# Altium schematic symbol library Cole_.SchLib: 330 symbols (part 4 of 10)
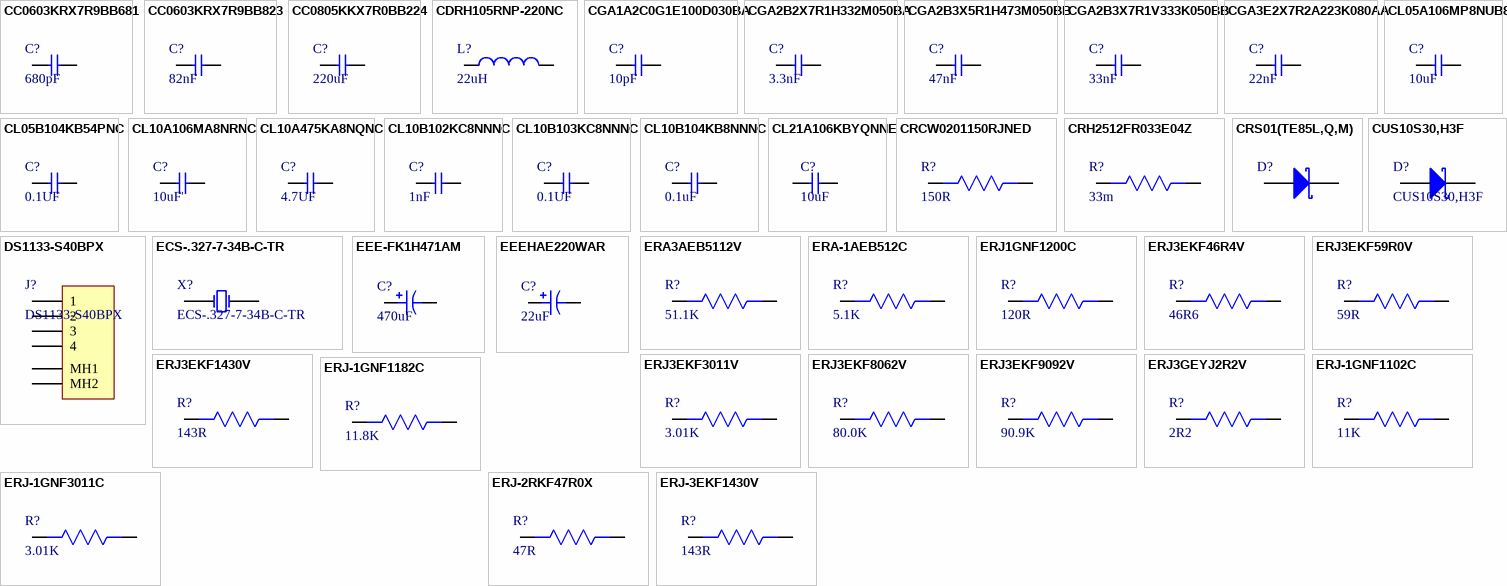
[diagram p11: symbols CC0603KRX7R9BB681 to ERJ-3EKF1430V]

## ERJ3EKF59R0V
designator R?, comment 59R
RES SMD 59 OHM 1% 1/10W 0603; Manufacturer: Panasonic; Manufacturer Part Number: ERJ-3EKF59R0V; Power Rating: 100mW; Voltage Rating: 75V; Temperature Coefficient: 100ppm/°C; Voltage Rating (DC): 50V; Supplier 1: Digi-Key; RoHS: Yes; Category: Chip SMD Resistors; Stock 1: 38721; Pricing 1: 1=0.10000, 10=0.03700, 100=0.01490, 1000=0.00670, 2500=0.00582 (USD); Mount: Surface Mount; Case/Package: 0603; Case Code (Metric): 1608; Case Code (Imperial): 0603; Contact Plating: Tin; Min Operating Temperature: -55°C; Max Operating Temperature: 155°C; Resistance: 59R; Tolerance: 1%; Packaging: Tape and Reel; Package Quantity: 1; Resistor Type: Thick Film; Number of Terminations: 2; Termination: SMD/SMT; Max Power Dissipation: 100mW; Features: Automotive AEC-Q200; Series: ERJ; Resistance Tolerance: 1%; Construction: Rectangular; Technology: THICK FILM; Length: 1.6mm; Width: 0.031inch; Height: 0.45mm; Depth: 0.8mm; REACH SVHC: Yes; Military Standard: Not; Lead Free: Contains Lead; RoHS Compliant: Yes; ComponentLink1URL: https://datasheet.ciiva.com/9188/aoa0000ce2-9188485.pdf?src-supplier=Avnet; ComponentLink1Description: https://datasheet.ciiva.com/9188/aoa0000ce2-9188485.pdf?src-supplier=Avnet; ComponentLink2URL: https://datasheet.ciiva.com/46420/1678782-46420341.pdf?src-supplier=Element14; ComponentLink2Description: https://datasheet.ciiva.com/46420/1678782-46420341.pdf?src-supplier=Element14; ComponentLink3URL: https://datasheet.ciiva.com/22729/1678782-22729158.pdf?src-supplier=Farnell; ComponentLink3Description: https://datasheet.ciiva.com/22729/1678782-22729158.pdf?src-supplier=Farnell; ComponentLink4URL: https://datasheet.ciiva.com/22673/1678782-22673800.pdf?src-supplier=Element14; ComponentLink4Description: https://datasheet.ciiva.com/22673/1678782-22673800.pdf?src-supplier=Element14; ComponentLink5URL: https://datasheet.ciiva.com/9188/aoa0000ce2-9188489.pdf?src-supplier=Avnet; ComponentLink5Description: https://datasheet.ciiva.com/9188/aoa0000ce2-9188489.pdf?src-supplier=Avnet; ComponentLink6URL: https://datasheet.ciiva.com/30242/aoa0000ce2-30242153.pdf?src-supplier=Onlinecomponents.com; ComponentLink6Description: https://datasheet.ciiva.com/30242/aoa0000ce2-30242153.pdf?src-supplier=Onlinecomponents.com; ComponentLink7URL: https://datasheet.ciiva.com/16777/70260748-16777979.pdf?src-supplier=Allied+Electronics; ComponentLink7Description: https://datasheet.ciiva.com/16777/70260748-16777979.pdf?src-supplier=Allied+Electronics; Supplier Part Number 1: P59.0HCT-ND
footprint Res0603
pins: 1, 2

## ERJ3EKF1430V
designator R?, comment 143R
RES SMD 143R 1/10W 0603; Manufacturer: Panasonic; Manufacturer Part Number: ERJ-3EKF1430V; Power Rating: 100mW; Tolerance: 1%; Voltage Rating: 75V; Temperature Coefficient: 100ppm/°C; Voltage Rating (DC): 50V; Supplier 1: Digi-Key; RoHS: Yes; Category: Chip SMD Resistors; Stock 1: 91616; Pricing 1: 1=0.10000, 10=0.07300, 100=0.02990, 1000=0.01341, 2500=0.01164 (USD); Mount: Surface Mount; Case/Package: 0603; Case Code (Metric): 1608; Case Code (Imperial): 0603; Contact Plating: Tin; Min Operating Temperature: -55°C; Max Operating Temperature: 155°C; Resistance: 143R; Packaging: Tape and Reel; Package Quantity: 1; Resistor Type: Thick Film; Number of Terminations: 2; Max Power Dissipation: 100mW; Features: Automotive AEC-Q200; Series: ERJ; Construction: Rectangular; Resistance Tolerance: 1%; Length: 1.6mm; Width: 0.031inch; Height: 0.022inch; Depth: 0.8mm; REACH SVHC: Yes; Military Standard: Not; Lead Free: Lead Free; RoHS Compliant: Yes; ComponentLink1URL: https://datasheet.ciiva.com/9185/aoa0000ce2-9185607.pdf?src-supplier=Avnet; ComponentLink1Description: https://datasheet.ciiva.com/9185/aoa0000ce2-9185607.pdf?src-supplier=Avnet; ComponentLink2URL: https://datasheet.ciiva.com/24035/aoa0000ce2-24035226.pdf?src-supplier=Mouser; ComponentLink2Description: https://datasheet.ciiva.com/24035/aoa0000ce2-24035226.pdf?src-supplier=Mouser; ComponentLink3URL: https://datasheet.ciiva.com/22741/1678782-22741133.pdf?src-supplier=Element14; ComponentLink3Description: https://datasheet.ciiva.com/22741/1678782-22741133.pdf?src-supplier=Element14; Supplier Part Number 1: P143HCT-ND
footprint Res0603
pins: 1, 2

## ERJ3EKF3011V
designator R?, comment 3.01K
RES SMD 3.01K OHM 1% 1/10W 0603; Manufacturer: Panasonic; Manufacturer Part Number: ERJ-3EKF3011V; Resistance: 3.01kR; Power Rating: 100mW; Voltage Rating: 75V; Temperature Coefficient: 100ppm/°C; Voltage Rating (DC): 50V; Supplier 1: Digi-Key; RoHS: Yes; Category: Chip SMD Resistors; Stock 1: 64217; Pricing 1: 1=0.10000, 10=0.03900, 100=0.01590, 1000=0.00713, 2500=0.00619 (USD); Mount: Surface Mount; Case/Package: 0603; Case Code (Metric): 1608; Case Code (Imperial): 0603; Contact Plating: Tin; Min Operating Temperature: -55°C; Max Operating Temperature: 155°C; Tolerance: 1%; Packaging: Tape and Reel; Package Quantity: 1; Resistor Type: Thick Film; Number of Terminations: 2; Termination: SMD/SMT; Max Power Dissipation: 100mW; Working Voltage: 75V; Features: Automotive AEC-Q200; Series: ERJ; Resistance Tolerance: 1%; Construction: Rectangular; Technology: THICK FILM; Length: 1.6mm; Width: 0.031inch; Height: 0.022inch; Depth: 0.8mm; Radiation Hardening: No; REACH SVHC: No SVHC; Military Standard: Not; Lead Free: Lead Free; RoHS Compliant: Yes; ComponentLink1URL: https://datasheet.ciiva.com/48530/aoa0000ce2-48530997.pdf?src-supplier=Avnet; ComponentLink1Description: https://datasheet.ciiva.com/48530/aoa0000ce2-48530997.pdf?src-supplier=Avnet; ComponentLink2URL: https://datasheet.ciiva.com/9117/aoa0000ce2-9117094.pdf?src-supplier=Avnet; ComponentLink2Description: https://datasheet.ciiva.com/9117/aoa0000ce2-9117094.pdf?src-supplier=Avnet; ComponentLink3URL: https://datasheet.ciiva.com/24069/aoa0000ce2-24069032.pdf?src-supplier=Mouser; ComponentLink3Description: https://datasheet.ciiva.com/24069/aoa0000ce2-24069032.pdf?src-supplier=Mouser; ComponentLink4URL: https://datasheet.ciiva.com/46377/426256-46377976.pdf?src-supplier=Element14; ComponentLink4Description: https://datasheet.ciiva.com/46377/426256-46377976.pdf?src-supplier=Element14; ComponentLink5URL: https://datasheet.ciiva.com/16762/70260748-16762377.pdf?src-supplier=Allied+Electronics; ComponentLink5Description: https://datasheet.ciiva.com/16762/70260748-16762377.pdf?src-supplier=Allied+Electronics; ComponentLink6URL: https://datasheet.ciiva.com/16511/aoa0000ce2-16511707.pdf?src-supplier=Avnet+Asia; ComponentLink6Description: https://datasheet.ciiva.com/16511/aoa0000ce2-16511707.pdf?src-supplier=Avnet+Asia; ComponentLink7URL: https://datasheet.ciiva.com/28695/1678782-28695803.pdf?src-supplier=Element14; ComponentLink7Description: https://datasheet.ciiva.com/28695/1678782-28695803.pdf?src-supplier=Element14; ComponentLink8URL: https://datasheet.ciiva.com/16773/70260748-16773212.pdf?src-supplier=Allied+Electronics; ComponentLink8Description: https://datasheet.ciiva.com/16773/70260748-16773212.pdf?src-supplier=Allied+Electronics; ComponentLink9URL: https://datasheet.ciiva.com/5969/426256-5969261.pdf?src-supplier=Farnell; ComponentLink9Description: https://datasheet.ciiva.com/5969/426256-5969261.pdf?src-supplier=Farnell; Supplier Part Number 1: P3.01KHCT-ND
footprint Res0603
pins: 1, 2

## ERJ3EKF8062V
designator R?, comment 80.0K
Res Thick Film 0603 80.6K Ohm 1% 1/10W ±100ppm/°C Molded SMD Punched Carrier T/R; Manufacturer: Panasonic; Manufacturer Part Number: ERJ-3EKF8062V; Resistance: 80.6kR; Power Rating: 100mW; Voltage Rating: 75V; Supplier 1: Digi-Key; RoHS: Yes; Category: Chip SMD Resistors; Stock 1: 53985; Pricing 1: 1=0.10000, 10=0.04500, 100=0.01840, 1000=0.00828, 2500=0.00719 (USD); Mount: Surface Mount; Case/Package: 0603; Contact Plating: Tin; Case Code (Imperial): 0603; Case Code (Metric): 1608; Size Code: 0603; Min Operating Temperature: -55°C; Max Operating Temperature: 155°C; Tolerance: 1%; Resistor Type: Thick Film; Temperature Coefficient: 100ppm/°C; Packaging: Tape and Reel; Package Quantity: 1; Termination: SMD/SMT; Number of Terminations: 2; Max Power Dissipation: 100mW; Features: Automotive AEC-Q200; Series: ERJ; Construction: Rectangular; Resistance Tolerance: 1%; Technology: THICK FILM; Length: 1.6mm; Width: 0.8mm; Height: 0.45mm; Depth: 0.8mm; Radiation Hardening: No; REACH SVHC: No SVHC; Military Standard: Not; RoHS Compliant: Yes; ComponentLink1URL: https://datasheet.ciiva.com/34303/1988428-34303606.pdf?src-supplier=Jameco; ComponentLink1Description: https://datasheet.ciiva.com/34303/1988428-34303606.pdf?src-supplier=Jameco; ComponentLink2URL: https://datasheet.ciiva.com/43460/426256-43460613.pdf?src-supplier=Farnell; ComponentLink2Description: https://datasheet.ciiva.com/43460/426256-43460613.pdf?src-supplier=Farnell; ComponentLink3URL: https://datasheet.ciiva.com/46390/426256-46390277.pdf?src-supplier=Element14; ComponentLink3Description: https://datasheet.ciiva.com/46390/426256-46390277.pdf?src-supplier=Element14; ComponentLink4URL: https://datasheet.ciiva.com/6159/426256-6159621.pdf?src-supplier=Farnell; ComponentLink4Description: https://datasheet.ciiva.com/6159/426256-6159621.pdf?src-supplier=Farnell; ComponentLink5URL: https://datasheet.ciiva.com/46378/426256-46378107.pdf?src-supplier=Element14; ComponentLink5Description: https://datasheet.ciiva.com/46378/426256-46378107.pdf?src-supplier=Element14; ComponentLink6URL: https://datasheet.ciiva.com/28540/1678782-28540761.pdf?src-supplier=Element14; ComponentLink6Description: https://datasheet.ciiva.com/28540/1678782-28540761.pdf?src-supplier=Element14; ComponentLink7URL: https://datasheet.ciiva.com/24069/aoa0000ce2-24069717.pdf?src-supplier=Mouser; ComponentLink7Description: https://datasheet.ciiva.com/24069/aoa0000ce2-24069717.pdf?src-supplier=Mouser; ComponentLink8URL: https://datasheet.ciiva.com/16771/70260748-16771423.pdf?src-supplier=Allied+Electronics; ComponentLink8Description: https://datasheet.ciiva.com/16771/70260748-16771423.pdf?src-supplier=Allied+Electronics; ComponentLink9URL: https://datasheet.ciiva.com/16767/70260748-16767567.pdf?src-supplier=Allied+Electronics; ComponentLink9Description: https://datasheet.ciiva.com/16767/70260748-16767567.pdf?src-supplier=Allied+Electronics; ComponentLink10URL: https://datasheet.ciiva.com/9117/aoa0000ce2-9117181.pdf?src-supplier=Avnet; ComponentLink10Description: https://datasheet.ciiva.com/9117/aoa0000ce2-9117181.pdf?src-supplier=Avnet; ComponentLink11URL: https://datasheet.ciiva.com/30240/aoa0000ce2-30240122.pdf?src-supplier=Onlinecomponents.com; ComponentLink11Description: https://datasheet.ciiva.com/30240/aoa0000ce2-30240122.pdf?src-supplier=Onlinecomponents.com; ComponentLink12URL: https://datasheet.ciiva.com/26820/getdatasheetpartid-28772-26820919.pdf?src-supplier=Verical; ComponentLink12Description: https://datasheet.ciiva.com/26820/getdatasheetpartid-28772-26820919.pdf?src-supplier=Verical; ComponentLink13URL: https://datasheet.ciiva.com/17208/aoa0000ce2-17208604.pdf?src-supplier=Avnet+Europe; ComponentLink13Description: https://datasheet.ciiva.com/17208/aoa0000ce2-17208604.pdf?src-supplier=Avnet+Europe; Supplier Part Number 1: P80.6KHCT-ND
footprint Res0603
pins: 1, 2

## ERJ3EKF9092V
designator R?, comment 90.9K
Res SMD 0603 90.9K Ohm 1% 1/10W; Manufacturer: Panasonic; Manufacturer Part Number: ERJ-3EKF9092V; Resistance: 90.9kR; Temperature Coefficient: 100ppm/°C; Power Rating: 100mW; Voltage Rating: 75V; Voltage Rating (DC): 50V; Supplier 1: Digi-Key; RoHS: Yes; Category: Chip SMD Resistors; Stock 1: 4937; Pricing 1: 1=0.10000, 10=0.04500, 100=0.01840, 1000=0.00828, 2500=0.00719 (USD); Mount: Surface Mount; Case/Package: 0603; Contact Plating: Tin; Case Code (Metric): 1608; Case Code (Imperial): 0603; Min Operating Temperature: -55°C; Max Operating Temperature: 155°C; Tolerance: 1%; Resistor Type: Thick Film; Packaging: Tape and Reel; Package Quantity: 1; Number of Terminations: 2; Termination: SMD/SMT; Max Power Dissipation: 100mW; Features: Automotive AEC-Q200; Series: ERJ; Construction: Rectangular; Resistance Tolerance: 1%; Length: 1.6mm; Width: 0.031inch; Height: 0.022inch; Depth: 0.8mm; Radiation Hardening: No; REACH SVHC: No SVHC; Military Standard: Not; Lead Free: Lead Free; RoHS Compliant: Yes; ComponentLink1URL: https://datasheet.ciiva.com/16767/70260748-16767061.pdf?src-supplier=Allied+Electronics; ComponentLink1Description: https://datasheet.ciiva.com/16767/70260748-16767061.pdf?src-supplier=Allied+Electronics; ComponentLink2URL: https://datasheet.ciiva.com/43519/426256-43519527.pdf?src-supplier=Farnell; ComponentLink2Description: https://datasheet.ciiva.com/43519/426256-43519527.pdf?src-supplier=Farnell; ComponentLink3URL: https://datasheet.ciiva.com/48531/aoa0000ce2-48531512.pdf?src-supplier=Avnet; ComponentLink3Description: https://datasheet.ciiva.com/48531/aoa0000ce2-48531512.pdf?src-supplier=Avnet; ComponentLink4URL: https://datasheet.ciiva.com/28672/1678782-28672329.pdf?src-supplier=Element14; ComponentLink4Description: https://datasheet.ciiva.com/28672/1678782-28672329.pdf?src-supplier=Element14; ComponentLink5URL: https://datasheet.ciiva.com/30130/aoa0000ce2-30130457.pdf?src-supplier=Onlinecomponents.com; ComponentLink5Description: https://datasheet.ciiva.com/30130/aoa0000ce2-30130457.pdf?src-supplier=Onlinecomponents.com; ComponentLink6URL: https://datasheet.ciiva.com/16522/aoa0000ce2-16522698.pdf?src-supplier=Avnet+Asia; ComponentLink6Description: https://datasheet.ciiva.com/16522/aoa0000ce2-16522698.pdf?src-supplier=Avnet+Asia; ComponentLink7URL: https://datasheet.ciiva.com/24027/aoa0000ce2-24027325.pdf?src-supplier=Mouser; ComponentLink7Description: https://datasheet.ciiva.com/24027/aoa0000ce2-24027325.pdf?src-supplier=Mouser; ComponentLink8URL: https://datasheet.ciiva.com/28611/1678782-28611006.pdf?src-supplier=Element14; ComponentLink8Description: https://datasheet.ciiva.com/28611/1678782-28611006.pdf?src-supplier=Element14; ComponentLink9URL: https://datasheet.ciiva.com/46377/426256-46377454.pdf?src-supplier=Element14; ComponentLink9Description: https://datasheet.ciiva.com/46377/426256-46377454.pdf?src-supplier=Element14; ComponentLink10URL: https://datasheet.ciiva.com/6159/426256-6159631.pdf?src-supplier=Farnell; ComponentLink10Description: https://datasheet.ciiva.com/6159/426256-6159631.pdf?src-supplier=Farnell; Supplier Part Number 1: P90.9KHCT-ND
footprint Res0603
pins: 1, 2

## ERJ3GEYJ2R2V
designator R?, comment 2R2
RES SMD 2.2OHM 0603; Manufacturer: Panasonic; Manufacturer Part Number: ERJ-3GEYJ2R2V; Resistance: 2.2R; Tolerance: 5%; Temperature Coefficient: 600ppm/°C; Voltage Rating: 75V; Power Rating: 100mW; Voltage Rating (DC): 50V; Supplier 1: Digi-Key; RoHS: Yes; Category: Chip SMD Resistors; Stock 1: 2941010; Pricing 1: 1=0.10000, 10=0.05000, 100=0.02020, 1000=0.00905, 2500=0.00786 (USD); Mount: Surface Mount; Case/Package: 0603; Contact Plating: Tin; Case Code (Imperial): 0603; Case Code (Metric): 1608; Min Operating Temperature: -55°C; Max Operating Temperature: 155°C; Resistor Type: Thick Film; Packaging: Tape and Reel; Package Quantity: 1; Number of Terminations: 2; Termination: SMD/SMT; Max Power Dissipation: 100mW; Features: Automotive AEC-Q200; Series: ERJ; Resistance Tolerance: 5%; Construction: Rectangular; Technology: THICK FILM; Length: 1.6mm; Width: 0.8mm; Height: 0.45mm; Depth: 0.8mm; Radiation Hardening: No; REACH SVHC: No SVHC; Military Standard: Not; Lead Free: Lead Free; RoHS Compliant: Yes; ComponentLink1URL: https://datasheet.ciiva.com/11821/0900766b80f806dd-11821449.pdf?src-supplier=RSComponents; ComponentLink1Description: https://datasheet.ciiva.com/11821/0900766b80f806dd-11821449.pdf?src-supplier=RSComponents; ComponentLink2URL: https://datasheet.ciiva.com/46374/1500035-46374005.pdf?src-supplier=Element14; ComponentLink2Description: https://datasheet.ciiva.com/46374/1500035-46374005.pdf?src-supplier=Element14; ComponentLink3URL: https://datasheet.ciiva.com/9117/aoa0000ce1-9117159.pdf?src-supplier=Avnet; ComponentLink3Description: https://datasheet.ciiva.com/9117/aoa0000ce1-9117159.pdf?src-supplier=Avnet; ComponentLink4URL: https://datasheet.ciiva.com/24025/aoa0000ce1-37422-24025463.pdf?src-supplier=Mouser; ComponentLink4Description: https://datasheet.ciiva.com/24025/aoa0000ce1-37422-24025463.pdf?src-supplier=Mouser; ComponentLink5URL: https://datasheet.ciiva.com/16765/70255313-16765018.pdf?src-supplier=Allied+Electronics; ComponentLink5Description: https://datasheet.ciiva.com/16765/70255313-16765018.pdf?src-supplier=Allied+Electronics; ComponentLink6URL: https://datasheet.ciiva.com/30150/4aoa0000ce1-30150090.pdf?src-supplier=Onlinecomponents.com; ComponentLink6Description: https://datasheet.ciiva.com/30150/4aoa0000ce1-30150090.pdf?src-supplier=Onlinecomponents.com; ComponentLink7URL: https://datasheet.ciiva.com/46386/1500035-46386764.pdf?src-supplier=Element14; ComponentLink7Description: https://datasheet.ciiva.com/46386/1500035-46386764.pdf?src-supplier=Element14; ComponentLink8URL: https://datasheet.ciiva.com/16762/70255313-16762317.pdf?src-supplier=Allied+Electronics; ComponentLink8Description: https://datasheet.ciiva.com/16762/70255313-16762317.pdf?src-supplier=Allied+Electronics; ComponentLink9URL: https://datasheet.ciiva.com/17214/aoa0000ce1-17214157.pdf?src-supplier=Avnet+Europe; ComponentLink9Description: https://datasheet.ciiva.com/17214/aoa0000ce1-17214157.pdf?src-supplier=Avnet+Europe; Supplier Part Number 1: P2.2GCT-ND
footprint Res0603
pins: 1, 2

## ERJ-1GNF1102C
designator R?, comment 11K
RES SMD 11K OHM 1% 1/20W 0201; Manufacturer: Panasonic; Manufacturer Part Number: ERJ-1GNF1102C; Resistance: 11kR; Power Rating: 50mW; Voltage Rating: 25V; Temperature Coefficient: 200ppm/°C; Supplier 1: Digi-Key; RoHS: Yes; Category: Chip SMD Resistors; Stock 1: 45966; Pricing 1: 1=0.10000, 10=0.05300, 100=0.02170, 1000=0.00975, 2500=0.00846, 5000=0.00699 (USD); Mount: Surface Mount; Case/Package: 0201; Number of Pins: 2; Case Code (Imperial): 0201; Case Code (Metric): 0603; Weight: 6E-06oz; Contact Plating: Tin,Matte; Min Operating Temperature: -55°C; Max Operating Temperature: 125°C; Packaging: Tape and Reel; Tolerance: 1%; Package Quantity: 15000; Resistor Type: Thick Film; Termination: SMD/SMT; Number of Terminations: 2; Max Power Dissipation: 50mW; Voltage Rating (DC): 25V; Series: ERJ; Resistance Tolerance: 1%; Length: 0.024inch; Width: 0.3mm; Height: 0.01inch; Radiation Hardening: No; REACH SVHC: Unknown; RoHS Compliant: Yes; ComponentLink1URL: https://datasheet.ciiva.com/43467/1678782-43467079.pdf?src-supplier=Farnell; ComponentLink1Description: https://datasheet.ciiva.com/43467/1678782-43467079.pdf?src-supplier=Farnell; ComponentLink2URL: https://datasheet.ciiva.com/7891/aoa0000ce2-7891278.pdf?src-supplier=Element14; ComponentLink2Description: https://datasheet.ciiva.com/7891/aoa0000ce2-7891278.pdf?src-supplier=Element14; Supplier Part Number 1: P122675CT-ND
footprint Res-0201
pins: 1, 2

## ERJ-1GNF1182C
designator R?, comment 11.8K
RES SMD 11.8K OHM 1% 1/20W 0201; Manufacturer: Panasonic; Manufacturer Part Number: ERJ-1GNF1182C; Temperature Coefficient: 200ppm/°C; Resistance: 11.8kR; Power Rating: 50mW; Voltage Rating: 25V; Supplier 1: Digi-Key; RoHS: Yes; Category: Chip SMD Resistors; Stock 1: 11344; Pricing 1: 1=0.10000, 10=0.05300, 100=0.02170, 1000=0.00975, 2500=0.00846, 5000=0.00699 (USD); Mount: Surface Mount; Case/Package: 0201; Case Code (Metric): 0603; Case Code (Imperial): 0201; Contact Plating: Tin,Matte; Min Operating Temperature: -55°C; Max Operating Temperature: 125°C; Number of Terminations: 2; Termination: SMD/SMT; Packaging: Tape and Reel; Tolerance: 1%; Package Quantity: 15000; Resistor Type: Thick Film; Max Power Dissipation: 50mW; Length: 0.024inch; Width: 0.012inch; Height: 0.01inch; Radiation Hardening: No; ComponentLink1URL: https://datasheet.ciiva.com/24065/aoa0000ce2-24065341.pdf?src-supplier=Mouser; ComponentLink1Description: https://datasheet.ciiva.com/24065/aoa0000ce2-24065341.pdf?src-supplier=Mouser; Supplier Part Number 1: P122686CT-ND
footprint Res-0201
pins: 1, 2

## ERJ-1GNF3011C
designator R?, comment 3.01K
RES SMD 3.01K OHM 1% 1/20W 0201; Manufacturer: Panasonic; Manufacturer Part Number: ERJ-1GNF3011C; Resistance: 3.01kR; Power Rating: 50mW; Voltage Rating: 25V; Temperature Coefficient: 200ppm/°C; Supplier 1: Digi-Key; RoHS: Yes; Category: Chip SMD Resistors; Stock 1: 70418; Pricing 1: 1=0.10000, 10=0.05300, 100=0.02170, 1000=0.00975, 2500=0.00846, 5000=0.00699 (USD); Mount: Surface Mount; Case/Package: 0201; Case Code (Metric): 0603; Case Code (Imperial): 0201; Contact Plating: Tin,Matte; Weight: 6E-06oz; Min Operating Temperature: -55°C; Max Operating Temperature: 125°C; Tolerance: 1%; Packaging: Tape and Reel; Package Quantity: 15000; Resistor Type: Thick Film; Number of Terminations: 2; Max Power Dissipation: 50mW; Termination: SMD/SMT; Length: 0.024inch; Width: 0.012inch; Height: 0.01inch; ComponentLink1URL: https://datasheet.ciiva.com/24168/aoa0000ce2-24168374.pdf?src-supplier=Mouser; ComponentLink1Description: https://datasheet.ciiva.com/24168/aoa0000ce2-24168374.pdf?src-supplier=Mouser; ComponentLink2URL: https://datasheet.ciiva.com/43511/aoa0000ce2-43511431.pdf?src-supplier=Onlinecomponents.com; ComponentLink2Description: https://datasheet.ciiva.com/43511/aoa0000ce2-43511431.pdf?src-supplier=Onlinecomponents.com; Supplier Part Number 1: P122916CT-ND
footprint Res-0201
pins: 1, 2

## ERJ-2RKF47R0X
designator R?, comment 47R
RES SMD 47 OHM 1% 1/10W 0402; Manufacturer: Panasonic; Manufacturer Part Number: ERJ-2RKF47R0X; Temperature Coefficient: 100ppm/°C; Power Rating: 100mW; Voltage Rating: 50V; Supplier 1: Digi-Key; RoHS: Yes; Category: Chip SMD Resistors; Stock 1: 93402; Pricing 1: 1=0.10000, 10=0.02500, 100=0.01020, 1000=0.00457, 2500=0.00397, 5000=0.00328 (USD); Mount: Surface Mount; Case/Package: 0402; Number of Pins: 2; Contact Plating: Tin; Case Code (Metric): 1005; Case Code (Imperial): 0402; Weight: 2.8E-05oz; Min Operating Temperature: -55°C; Max Operating Temperature: 155°C; Resistance: 47R; Tolerance: 1%; Resistor Type: Thick Film; Packaging: Tape and Reel; Package Quantity: 1; Number of Terminations: 2; Termination: SMD/SMT; Max Power Dissipation: 100mW; Voltage Rating (DC): 50V; Features: Automotive AEC-Q200; Series: ERJ; Resistance Tolerance: 1%; Construction: Rectangular; Technology: THICK FILM; Length: 1mm; Width: 0.02inch; Height: 0.35mm; Depth: 0.5mm; REACH SVHC: No SVHC; Military Standard: Not; Lead Free: Lead Free; RoHS Compliant: Yes; ComponentLink1URL: https://datasheet.ciiva.com/11821/0900766b80f80784-11821333.pdf?src-supplier=RSComponents; ComponentLink1Description: https://datasheet.ciiva.com/11821/0900766b80f80784-11821333.pdf?src-supplier=RSComponents; ComponentLink2URL: https://datasheet.ciiva.com/43467/1678782-43467189.pdf?src-supplier=Farnell; ComponentLink2Description: https://datasheet.ciiva.com/43467/1678782-43467189.pdf?src-supplier=Farnell; ComponentLink3URL: https://datasheet.ciiva.com/46373/1678782-46373909.pdf?src-supplier=Element14; ComponentLink3Description: https://datasheet.ciiva.com/46373/1678782-46373909.pdf?src-supplier=Element14; ComponentLink4URL: https://datasheet.ciiva.com/6082/aoa0000ce2-6082054.pdf?src-supplier=Farnell; ComponentLink4Description: https://datasheet.ciiva.com/6082/aoa0000ce2-6082054.pdf?src-supplier=Farnell; ComponentLink5URL: https://datasheet.ciiva.com/46373/1678782-46373910.pdf?src-supplier=Element14; ComponentLink5Description: https://datasheet.ciiva.com/46373/1678782-46373910.pdf?src-supplier=Element14; ComponentLink6URL: https://datasheet.ciiva.com/16786/70260748-16786359.pdf?src-supplier=Allied+Electronics; ComponentLink6Description: https://datasheet.ciiva.com/16786/70260748-16786359.pdf?src-supplier=Allied+Electronics; ComponentLink7URL: https://datasheet.ciiva.com/22684/1678782-22684775.pdf?src-supplier=Element14; ComponentLink7Description: https://datasheet.ciiva.com/22684/1678782-22684775.pdf?src-supplier=Element14; ComponentLink8URL: https://datasheet.ciiva.com/7887/426256-7887019.pdf?src-supplier=Element14; ComponentLink8Description: https://datasheet.ciiva.com/7887/426256-7887019.pdf?src-supplier=Element14; ComponentLink9URL: https://datasheet.ciiva.com/9189/aoa0000ce2-9189323.pdf?src-supplier=Avnet; ComponentLink9Description: https://datasheet.ciiva.com/9189/aoa0000ce2-9189323.pdf?src-supplier=Avnet; ComponentLink10URL: https://datasheet.ciiva.com/16783/70260748-16783259.pdf?src-supplier=Allied+Electronics; ComponentLink10Description: https://datasheet.ciiva.com/16783/70260748-16783259.pdf?src-supplier=Allied+Electronics; ComponentLink11URL: https://datasheet.ciiva.com/9189/aoa0000ce2-9189325.pdf?src-supplier=Avnet; ComponentLink11Description: https://datasheet.ciiva.com/9189/aoa0000ce2-9189325.pdf?src-supplier=Avnet; ComponentLink12URL: https://datasheet.ciiva.com/24165/aoa0000ce2-24165246.pdf?src-supplier=Mouser; ComponentLink12Description: https://datasheet.ciiva.com/24165/aoa0000ce2-24165246.pdf?src-supplier=Mouser; ComponentLink13URL: https://datasheet.ciiva.com/7886/aoa0000ce2-7886719.pdf?src-supplier=Element14; ComponentLink13Description: https://datasheet.ciiva.com/7886/aoa0000ce2-7886719.pdf?src-supplier=Element14; Supplier Part Number 1: P47.0LCT-ND
footprint Res0402
pins: 1, 2

## ERJ-3EKF1430V
designator R?, comment 143R
RES SMD 143 OHM 1% 1/10W 0603; Manufacturer: Panasonic; Manufacturer Part Number: ERJ-3EKF1430V; Power Rating: 100mW; Voltage Rating: 75V; Temperature Coefficient: 100ppm/°C; Voltage Rating (DC): 50V; Supplier 1: Digi-Key; RoHS: Yes; Category: Chip SMD Resistors; Stock 1: 91466; Pricing 1: 1=0.10000, 10=0.07300, 100=0.02990, 1000=0.01341, 2500=0.01164 (USD); Mount: Surface Mount; Case/Package: 0603; Case Code (Metric): 1608; Case Code (Imperial): 0603; Contact Plating: Tin; Min Operating Temperature: -55°C; Max Operating Temperature: 155°C; Resistance: 143R; Tolerance: 1%; Packaging: Tape and Reel; Package Quantity: 1; Resistor Type: Thick Film; Number of Terminations: 2; Max Power Dissipation: 100mW; Features: Automotive AEC-Q200; Series: ERJ; Construction: Rectangular; Resistance Tolerance: 1%; Length: 1.6mm; Width: 0.031inch; Height: 0.022inch; Depth: 0.8mm; REACH SVHC: Yes; Military Standard: Not; Lead Free: Lead Free; RoHS Compliant: Yes; ComponentLink1URL: https://datasheet.ciiva.com/9185/aoa0000ce2-9185607.pdf?src-supplier=Avnet; ComponentLink1Description: https://datasheet.ciiva.com/9185/aoa0000ce2-9185607.pdf?src-supplier=Avnet; ComponentLink2URL: https://datasheet.ciiva.com/24035/aoa0000ce2-24035226.pdf?src-supplier=Mouser; ComponentLink2Description: https://datasheet.ciiva.com/24035/aoa0000ce2-24035226.pdf?src-supplier=Mouser; ComponentLink3URL: https://datasheet.ciiva.com/22741/1678782-22741133.pdf?src-supplier=Element14; ComponentLink3Description: https://datasheet.ciiva.com/22741/1678782-22741133.pdf?src-supplier=Element14; Supplier Part Number 1: P143HCT-ND
footprint Res0603
pins: 1, 2

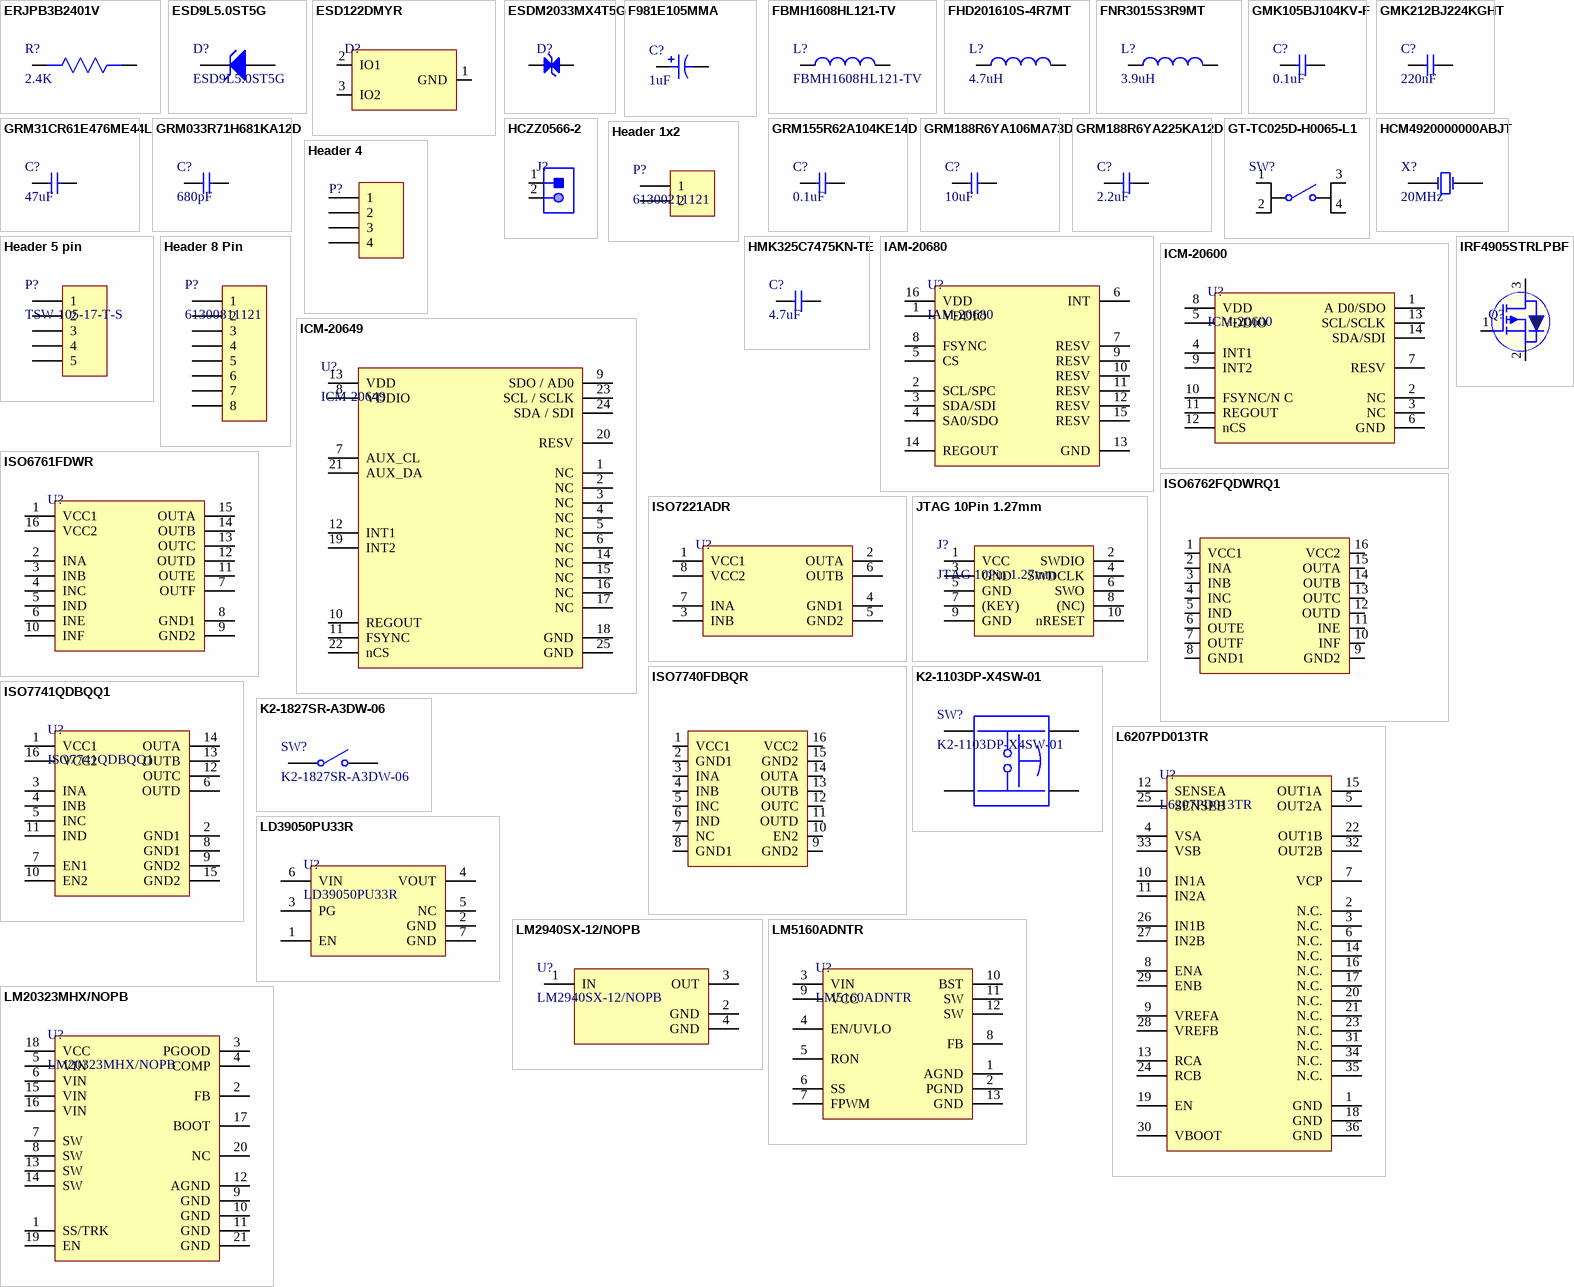
[diagram p3: symbols ERJPB3B2401V to LM20323MHX/NOPB]

## ERJPB3B2401V
designator R?, comment 2.4K
Res SMD 2.4K Ohm 0.1% 1/5W 0603; Manufacturer: Panasonic; Manufacturer Part Number: ERJ-PB3B2401V; Resistance: 2.4kR; Max Power Dissipation: 200mW; Temperature Coefficient: 50ppm/°C; Supplier 1: Digi-Key; RoHS: Yes; Category: Chip SMD Resistors; Stock 1: 5680; Pricing 1: 1=0.25000, 10=0.21100, 25=0.15320, 50=0.11100, 100=0.08230, 250=0.06316, 500=0.04976, 1000=0.03445 (USD); Case/Package: 0603; Case Code (Metric): 1608; Case Code (Imperial): 0603; Min Operating Temperature: -55°C; Max Operating Temperature: 155°C; Packaging: Tape and Reel; Resistor Type: Thick Film; Number of Terminations: 2; Features: Automotive AEC-Q200; Tolerance: 0.1%; Length: 0.063inch; Width: 0.032inch; Height - Seated (Max): 0.022inch; ComponentLink1URL: https://industrial.panasonic.com/sa/system/files/data/download/catalog/id_fixed-resistors_e_2.pdf?src-supplier=Digi-Key; ComponentLink1Description: https://industrial.panasonic.com/sa/system/files/data/download/catalog/id_fixed-resistors_e_2.pdf?src-supplier=Digi-Key; Supplier Part Number 1: P20013CT-ND
footprint Res0603
pins: 1, 2

## ESD9L5.0ST5G
designator D?
TVS DIODE 5V 9.8V SOD923; Manufacturer: ON Semiconductor; Capacitance: 0.9pF; Direction: Unidirectional; Number of Unidirectional Channels: 1; Min Breakdown Voltage: 5.4V; Power Line Protection: No; Leakage Current: 1uA; Element Configuration: Single; Peak Pulse Current: 1A; Diode Type: ZENER; Reverse Breakdown Voltage: 5.8V; Peak Pulse Power: 150mW; ESD Protection: Yes; Test Current: 1mA; Supplier 1: Digi-Key; Manufacturer Part Number: ESD9L5.0ST5G; RoHS: Yes; Category: ESD and Circuit Protection ICs; Stock 1: 558996; Pricing 1: 1=0.37000, 10=0.25600, 100=0.12500, 500=0.10426, 1000=0.07244, 2000=0.06278 (USD); Case/Package: SOD-923-2; Number of Pins: 2; Contact Plating: Tin,Matte; Min Operating Temperature: -55°C; Max Operating Temperature: 150°C; Package Quantity: 1; Packaging: Tape and Reel; Clamping Voltage: 9.8V; Reverse Standoff Voltage: 5V; Working Voltage: 5V; Resistor Type: Zener; Series: Automotive, AEC-Q101; Number of Elements: 1; Operating Supply Voltage: 5V; Max Surge Current: 1A; Breakdown Voltage: 5.4V; Number of Channels: 1; Polarity: Unidirectional; Termination: SMD/SMT; Max Reverse Leakage Current: 1uA; Max Breakdown Voltage: 5.4V; Number of Lines: 1; Power Dissipation: 150mW; Clamping Voltage-Max: 9.8V; Length: 0.8mm; Width: 0.65mm; Height: 0.4mm; Depth: 0.6mm; Radiation Hardening: No; Lead Free: Lead Free; RoHS Compliant: Yes; REACH SVHC: No SVHC; Halogen Free: Halogen Free; ComponentLink1URL: https://datasheet.ciiva.com/15143/getdatasheetpartid-185186-15143896.pdf?src-supplier=Verical; ComponentLink1Description: https://datasheet.ciiva.com/15143/getdatasheetpartid-185186-15143896.pdf?src-supplier=Verical; ComponentLink2URL: https://datasheet.ciiva.com/4510/esd9l-d-4510647.pdf?src-supplier=Mouser; ComponentLink2Description: https://datasheet.ciiva.com/4510/esd9l-d-4510647.pdf?src-supplier=Mouser; ComponentLink3URL: https://datasheet.ciiva.com/3304/esd9l-d-3304011.pdf?src-supplier=Avnet; ComponentLink3Description: https://datasheet.ciiva.com/3304/esd9l-d-3304011.pdf?src-supplier=Avnet; ComponentLink4URL: https://datasheet.ciiva.com/16437/esd9l-d-16437835.pdf?src-supplier=Future+Electronics; ComponentLink4Description: https://datasheet.ciiva.com/16437/esd9l-d-16437835.pdf?src-supplier=Future+Electronics; ComponentLink5URL: https://datasheet.ciiva.com/339/esd9l-d-339853.pdf?src-supplier=Digi-Key; ComponentLink5Description: https://datasheet.ciiva.com/339/esd9l-d-339853.pdf?src-supplier=Digi-Key; ComponentLink6URL: https://datasheet.ciiva.com/339/esd9l-d-339854.pdf?src-supplier=Digi-Key; ComponentLink6Description: https://datasheet.ciiva.com/339/esd9l-d-339854.pdf?src-supplier=Digi-Key; ComponentLink7URL: https://datasheet.ciiva.com/11195/esd9l-d-11195342.pdf?src-supplier=Avnet; ComponentLink7Description: https://datasheet.ciiva.com/11195/esd9l-d-11195342.pdf?src-supplier=Avnet; ComponentLink8URL: https://datasheet.ciiva.com/25958/esd9l-d-25958446.pdf?src-supplier=Avnet+Europe; ComponentLink8Description: https://datasheet.ciiva.com/25958/esd9l-d-25958446.pdf?src-supplier=Avnet+Europe; ComponentLink9URL: https://datasheet.ciiva.com/339/esd9l-d-339855.pdf?src-supplier=Digi-Key; ComponentLink9Description: https://datasheet.ciiva.com/339/esd9l-d-339855.pdf?src-supplier=Digi-Key; Supplier Part Number 1: ESD9L5.0ST5GOSCT-ND
footprint SOD-923
pins: 1 K, 2 A

## ESD122DMYR
designator D?
TVS DIODE 3.6VWM 8.4VC 3X2SON; Manufacturer: Texas Instruments; Manufacturer Part Number: ESD122DMYR; Interface: USB,GPIO,HDMI,PCIe,SATA; Number of Channels: 2; Reverse Standoff Voltage: 3.6V; Min Breakdown Voltage: 5.1V; Peak Pulse Current: 2.5A; Peak Pulse Power: 20W; Power Line Protection: No; Diode Type: ZENER; Item Type: TVS/ESD; Supplier: Mouser; Supplier Part Number: 595-ESD122DMYR; RoHS: Yes; Category: Integrated Circuits (ICs); Stock: 137267; Pricing: 1=0.38, 10=0.33, 50=0.33, 100=0.252, 1000=0.172, 10000=0.152 (USD); Mounting Technology: Surface Mount; Pins: 3; Min Operating Temperature: -40°C; Max Operating Temperature: 125°C; Packaging: Cut Tape; Number of Bidirectional Channels: 2; Series: -; RoHS Compliant: Yes; ComponentLink1URL: http://www.ti.com/general/docs/lit/getliterature.tsp?genericPartNumber=ESD122&fileType=pdf&src-supplier=Farnell; ComponentLink1Description: http://www.ti.com/general/docs/lit/getliterature.tsp?genericPartNumber=ESD122&fileType=pdf&src-supplier=Farnell; ComponentLink2URL: http://www.ti.com/lit/ds/symlink/esd122.pdf?src-supplier=Digikey; ComponentLink2Description: http://www.ti.com/lit/ds/symlink/esd122.pdf?src-supplier=Digikey; ComponentLink3URL: http://www.ti.com/general/docs/suppproductinfo.tsp?distId=10&amp;gotoUrl=http%3A%2F%2Fwww.ti.com%2Flit%2Fgpn%2Fesd122&src-supplier=Digikey; ComponentLink3Description: http://www.ti.com/general/docs/suppproductinfo.tsp?distId=10&amp;gotoUrl=http%3A%2F%2Fwww.ti.com%2Flit%2Fgpn%2Fesd122&src-supplier=Digikey; LCSC Part Number: C1975871
footprint X2-SON-3(0.6x1.3)
pins: 1 GND, 2 IO1, 3 IO2

## ESDM2033MX4T5G
designator D?
DIODE BIDIR ESD X4DFN2; Manufacturer: ON Semiconductor; Manufacturer Part Number: ESDM2033MX4T5G; Supplier: Digikey; Supplier Part Number: 488-ESDM2033MX4T5GCT-ND; RoHS: Yes; Item Type: Diode; Stock: 15273; Pricing: 1=0.37, 10=0.254, 100=0.124, 500=0.10342, 1000=0.07186, 2000=0.06228, 5000=0.05777 (USD); Series: -; LCSC Part Number: C896720
footprint 2-DFN (0.6x0.3)
pins: 1 A, 2 A

## F981E105MMA
designator C?, comment 1uF
CAP TANT 1UF 20% 25V 0603; Manufacturer: Kyocera AVX; Manufacturer Part Number: F981E105MMA; ESR (Equivalent Series Resistance): 10R; Supplier 1: Digi-Key; RoHS: Yes; Category: Tantalum Capacitors; Stock 1: 11167; Pricing 1: 1=0.79000, 10=0.55800, 50=0.42220, 100=0.36770, 500=0.27236, 1000=0.23151 (USD); Mount: Surface Mount; Case/Package: 0603; Min Operating Temperature: -55°C; Max Operating Temperature: 125°C; Features: General Purpose; Packaging: Tape and Reel; Capacitance: 1uF; Tolerance: 20%; Voltage Rating: 25V; RoHS Compliant: Yes; ComponentLink1URL: http://www.mouser.com/ds/2/40/f98-775787.pdf?src-supplier=Mouser; ComponentLink1Description: http://www.mouser.com/ds/2/40/f98-775787.pdf?src-supplier=Mouser; ComponentLink2URL: http://www.farnell.com/datasheets/2096554.pdf?src-supplier=Newark; ComponentLink2Description: http://www.farnell.com/datasheets/2096554.pdf?src-supplier=Newark; ComponentLink3URL: http://datasheets.avx.com/F98.pdf?src-supplier=Digi-Key; ComponentLink3Description: http://datasheets.avx.com/F98.pdf?src-supplier=Digi-Key; Supplier Part Number 1: 478-8658-1-ND
footprint F981E105MMA
pins: 1, 2

## FBMH1608HL121-TV
designator L?
Ferrite Beads 120Ohm 25% 100MHz 1.2A 0.13Ohm DCR 0603 Automotive T/R; Manufacturer: Taiyo Yuden; Impedance: 120R; Number of Lines: 1; DC Resistance (DCR): 130mR; Max DC Current: 900mA; Supplier 1: Avnet; Manufacturer Part Number: FBMH1608HL121-TV; RoHS: Yes; Category: Ferrite Beads and Chips; Pricing 1: 4000=0.05939, 8000=0.05429, 16000=0.05185, 24000=0.04942, 32000=0.04698 (USD); Mount: Surface Mount; Case/Package: 0603; Core Material: Ferrite; Case Code (Metric): 1608; Case Code (Imperial): 0603; Weight: 7.1E-05oz; Min Operating Temperature: -40°C; Max Operating Temperature: 125°C; Tolerance: 25%; Package Quantity: 4000; Packaging: Tape and Reel; Max Current Rating: 1.2A; Termination: SMD/SMT; Test Frequency: 100MHz; Length: 0.063inch; Width: 0.8mm; Height: 0.8mm; Ratings: AEC-Q200; RoHS Compliant: Yes; ComponentLink1URL: http://www.mouser.com/ds/2/396/chipbeads01_e-559265.pdf?src-supplier=Mouser; ComponentLink1Description: http://www.mouser.com/ds/2/396/chipbeads01_e-559265.pdf?src-supplier=Mouser; ComponentLink2URL: http://ds.yuden.co.jp/TYCOMPAS/ut/detail.do?productNo=FBMH1608HL121-TV&fileName=FBMH1608HL121-TV_SS&mode=specSheetDownload&src-supplier=Digi-Key; ComponentLink2Description: http://ds.yuden.co.jp/TYCOMPAS/ut/detail.do?productNo=FBMH1608HL121-TV&fileName=FBMH1608HL121-TV_SS&mode=specSheetDownload&src-supplier=Digi-Key; ComponentLink3URL: https://www.yuden.co.jp/ut/product/category/emisuppression/FBMH1608HL121-TV_SS.pdf?src-supplier=Avnet; ComponentLink3Description: https://www.yuden.co.jp/ut/product/category/emisuppression/FBMH1608HL121-TV_SS.pdf?src-supplier=Avnet; Supplier Part Number 1: FBMH1608HL121-TV
footprint IND 0603
pins: 1, 2

## FHD201610S-4R7MT
designator L?, comment 4.7uH
1A 4.7uH ±20% 1.4A 0806 Power Inductors ROHS; Manufacturer: cjiang; Manufacturer Part Number: FHD201610S-4R7MT; Package: 0806; LCSC Part Number: C601998; Item Type: Inductor; ComponentLink1Description: LCSC; ComponentLink1URL: https://www.lcsc.com/product-detail/Power-Inductors_cjiang-Changjiang-Microelectronics-Tech-FHD201610S-4R7MT_C601998.html
footprint IND-0806
pins: 1, 2

## FNR3015S3R9MT
designator L?, comment 3.9uH
1.5A 3.9uH ±20% 1.4A SMD,3x3mm Power Inductors ROHS; Manufacturer: cjiang; Manufacturer Part Number: FNR3015S3R9MT; Package: SMD,3x3mm; LCSC Part Number: C167751; Item Type: Inductor; ComponentLink1Description: LCSC; ComponentLink1URL: https://www.lcsc.com/product-detail/Power-Inductors_cjiang-Changjiang-Microelectronics-Tech-FNR3015S3R9MT_C167751.html
footprint FNR3015S3R9MT
pins: 1, 2

## GMK105BJ104KV-F
designator C?, comment 0.1uF
CAP CER 0.1UF 35V X5R 0402; Manufacturer: Taiyo Yuden; Manufacturer Part Number: GMK105BJ104KV-F; Material: 4241ConductorMaterial; Item Type: Capacitor; Supplier: Digi-Key; Supplier Part Number: 587-1994-1-ND; RoHS: Yes; Category: Ceramic Capacitors; Stock: 1872229; Pricing: 1=0.13, 10=0.089, 50=0.053, 100=0.0417, 500=0.0308, 1000=0.0255, 2500=0.02374, 5000=0.02172 (USD); ComponentLink1URL: https://datasheet.ciiva.com/30194/200gmk105bj104kv-f-30194761.pdf?src-supplier=Onlinecomponents.com; ComponentLink1Description: https://datasheet.ciiva.com/30194/200gmk105bj104kv-f-30194761.pdf?src-supplier=Onlinecomponents.com; ComponentLink2URL: https://datasheet.ciiva.com/11464/gmk105bj104kv-f-ss-11464131.pdf?src-supplier=Avnet; ComponentLink2Description: https://datasheet.ciiva.com/11464/gmk105bj104kv-f-ss-11464131.pdf?src-supplier=Avnet; ComponentLink3URL: https://datasheet.ciiva.com/30104/147gmk105bj104kv-f-30104963.pdf?src-supplier=Onlinecomponents.com; ComponentLink3Description: https://datasheet.ciiva.com/30104/147gmk105bj104kv-f-30104963.pdf?src-supplier=Onlinecomponents.com; ComponentLink4URL: https://datasheet.ciiva.com/15920/1013gmk105bj104kv-f-15920676.pdf?src-supplier=Onlinecomponents.com; ComponentLink4Description: https://datasheet.ciiva.com/15920/1013gmk105bj104kv-f-15920676.pdf?src-supplier=Onlinecomponents.com; ComponentLink5URL: https://datasheet.ciiva.com/5412/mlcc-all-e-541559-5412764.pdf?src-supplier=Mouser; ComponentLink5Description: https://datasheet.ciiva.com/5412/mlcc-all-e-541559-5412764.pdf?src-supplier=Mouser; ComponentLink6URL: https://datasheet.ciiva.com/7657/1497285-7657325.pdf?src-supplier=Element14; ComponentLink6Description: https://datasheet.ciiva.com/7657/1497285-7657325.pdf?src-supplier=Element14; ComponentLink7URL: https://datasheet.ciiva.com/22694/1497285-22694245.pdf?src-supplier=Element14; ComponentLink7Description: https://datasheet.ciiva.com/22694/1497285-22694245.pdf?src-supplier=Element14; LCSC Part Number: C187828
footprint Cap 0402
pins: 1, 2

## GMK212BJ224KGHT
designator C?, comment 220nF
CAP CER 220nF 35V 0805; Manufacturer: Taiyo Yuden; Manufacturer Part Number: GMK212BJ224KGHT; Dielectric: X5R; Tolerance: 10%; Supplier 1: Digi-Key; RoHS: Yes; Category: Ceramic Capacitors; Stock 1: 71; Pricing 1: 1=0.21000, 10=0.14900, 50=0.08440, 100=0.06990, 500=0.04898, 1000=0.04055 (USD); Mount: Surface Mount; Case/Package: 0805; Case Code (Metric): 2012; Case Code (Imperial): 0805; Min Operating Temperature: -55°C; Max Operating Temperature: 85°C; Termination: SMD/SMT; Voltage Rating: 35V; Package Quantity: 1; Packaging: Tape and Reel; Capacitance: 220nF; Voltage Rating (DC): 35V; Length: 0.079inch; Width: 0.049inch; Height: 1.25mm; Thickness: 0.053inch; Ratings: AEC-Q200; Lead Free: Lead Free; Halogen Free: Halogen Free; ComponentLink1URL: https://datasheet.ciiva.com/18697/mlcc01-hq-e-18697343.pdf?src-supplier=Digi-Key; ComponentLink1Description: https://datasheet.ciiva.com/18697/mlcc01-hq-e-18697343.pdf?src-supplier=Digi-Key; Supplier Part Number 1: 587-3366-1-ND
footprint Cap0805 (SMD 0805)
pins: 1, 2

## GRM31CR61E476ME44L
designator C?, comment 47uF
CAP CER 1206 47 uF 25 V ±20 % Tol. X5R; Manufacturer: Murata; Manufacturer Part Number: GRM31CR61E476ME44L; Tolerance: 20%; Voltage Rating (DC): 25V; Supplier 1: Digi-Key; RoHS: Yes; Category: Ceramic Capacitors; Capacitance: 47uF; Dielectric: X5R; Length: 3.2mm; Width: 1.6mm; Thickness: 1.6mm; ComponentLink1URL: https://search.murata.co.jp/Ceramy/image/img/A01X/partnumbering_e_01.pdf?src-supplier=Digi-Key; ComponentLink1Description: https://search.murata.co.jp/Ceramy/image/img/A01X/partnumbering_e_01.pdf?src-supplier=Digi-Key; Supplier Part Number 1: 490-16268-2-ND
footprint Cap1206 (SMD 1206)
pins: 1, 2

## GRM033R71H681KA12D
designator C?, comment 680pF
CAP CER 680PF 50V X7R 0201; Manufacturer: Murata; Manufacturer Part Number: GRM033R71H681KA12D; Tolerance: 10%; Supplier 1: Digi-Key; RoHS: Yes; Category: Ceramic Capacitors; Stock 1: 7174; Pricing 1: 1=0.10000, 10=0.03300, 50=0.01800, 100=0.01470, 500=0.01046, 1000=0.00822, 2500=0.00748, 5000=0.00688 (USD); Mount: Surface Mount; Case/Package: 0201; Case Code (Imperial): 0201; Case Code (Metric): 0603; Weight: 1.2E-05oz; Min Operating Temperature: -55°C; Max Operating Temperature: 125°C; Capacitance: 680pF; Packaging: Tape and Reel; Voltage Rating: 50V; Dielectric: X7R; Termination: SMD/SMT; Resistor Type: Ceramic; Voltage Rating (DC): 50V; Package Quantity: 15000; Length: 0.024inch; Width: 0.3mm; Height: 0.3mm; Thickness: 0.013inch; RoHS Compliant: Yes; ComponentLink1URL: http://www.farnell.com/datasheets/2722756.pdf?src-supplier=Farnell; ComponentLink1Description: http://www.farnell.com/datasheets/2722756.pdf?src-supplier=Farnell; ComponentLink2URL: http://www.mouser.com/ds/2/281/c02e-2905.pdf?src-supplier=Mouser; ComponentLink2Description: http://www.mouser.com/ds/2/281/c02e-2905.pdf?src-supplier=Mouser; ComponentLink3URL: https://search.murata.co.jp/Ceramy/image/img/A01X/G101/ENG/GRM033R71H681KA12-01.pdf?src-supplier=Digi-Key; ComponentLink3Description: https://search.murata.co.jp/Ceramy/image/img/A01X/G101/ENG/GRM033R71H681KA12-01.pdf?src-supplier=Digi-Key; ComponentLink4URL: http://psearch.en.murata.com/capacitor/product/GRM033R71H681KA12%23.pdf?src-supplier=Avnet; ComponentLink4Description: http://psearch.en.murata.com/capacitor/product/GRM033R71H681KA12%23.pdf?src-supplier=Avnet; ComponentLink5URL: http://search.murata.co.jp/Ceramy/image/img/A01X/G101/ENG/GRM033R71H681KA12-01.pdf?src-supplier=Digi-Key; ComponentLink5Description: http://search.murata.co.jp/Ceramy/image/img/A01X/G101/ENG/GRM033R71H681KA12-01.pdf?src-supplier=Digi-Key; ComponentLink6URL: http://www.farnell.com/datasheets/2722756.pdf?src-supplier=Newark; ComponentLink6Description: http://www.farnell.com/datasheets/2722756.pdf?src-supplier=Newark; Supplier Part Number 1: 490-17087-1-ND
footprint CAP 0201
pins: 1, 2

## GRM155R62A104KE14D
designator C?, comment 0.1uF
CAP CER 0.1UF 100V X5R 0402; Manufacturer: Murata; Manufacturer Part Number: GRM155R62A104KE14D; Capacitance: 100nF; Tolerance: 10%; Supplier 1: Digi-Key; RoHS: Yes; Category: Ceramic Capacitors; Stock 1: 616734; Pricing 1: 1=0.10000, 10=0.02900, 50=0.01580, 100=0.01300, 500=0.00926, 1000=0.00727, 2500=0.00661, 5000=0.00608 (USD); Mount: Surface Mount; Case/Package: 0402; Case Code (Metric): 1005; Case Code (Imperial): 0402; Weight: 0.000212oz; Min Operating Temperature: -55°C; Max Operating Temperature: 85°C; Packaging: Tape and Reel; Voltage Rating: 100V; Dielectric: X5R; Termination: SMD/SMT; Voltage Rating (DC): 100V; Package Quantity: 10000; Length: 0.039inch; Width: 0.5mm; Height: 0.5mm; Thickness: 0.022inch; REACH SVHC: No SVHC; Lead Free: Lead Free; RoHS Compliant: Yes; ComponentLink1URL: http://www.farnell.com/datasheets/2079151.pdf?src-supplier=Farnell; ComponentLink1Description: http://www.farnell.com/datasheets/2079151.pdf?src-supplier=Farnell; ComponentLink2URL: http://www.mouser.com/ds/2/281/c02e-2905.pdf?src-supplier=Mouser; ComponentLink2Description: http://www.mouser.com/ds/2/281/c02e-2905.pdf?src-supplier=Mouser; ComponentLink3URL: http://search.murata.co.jp/Ceramy/image/img/A01X/G101/ENG/GRM155R62A104KE14-01.pdf?src-supplier=Digi-Key; ComponentLink3Description: http://search.murata.co.jp/Ceramy/image/img/A01X/G101/ENG/GRM155R62A104KE14-01.pdf?src-supplier=Digi-Key; ComponentLink4URL: http://www.farnell.com/datasheets/2079151.pdf?src-supplier=Newark; ComponentLink4Description: http://www.farnell.com/datasheets/2079151.pdf?src-supplier=Newark; ComponentLink5URL: http://www.farnell.com/datasheets/2079151.pdf?src-supplier=Element14; ComponentLink5Description: http://www.farnell.com/datasheets/2079151.pdf?src-supplier=Element14; Supplier Part Number 1: 490-10458-1-ND
footprint Cap 0402
pins: 1, 2

## GRM188R6YA106MA73D
designator C?, comment 10uF
10uF 35V X5R 20% Pad SMD 0603; Manufacturer: Murata; Manufacturer Part Number: GRM188R6YA106MA73D; Supplier 1: Arrow Electronics; RoHS: Yes; Category: Ceramic Capacitors; Stock 1: 37601; Pricing 1: 1=0.36650, 10=0.23380, 25=0.23160, 100=0.15050, 250=0.14890, 500=0.10700, 1000=0.09270, 3000=0.08640, 6000=0.07720, 15000=0.07140, 30000=0.05840 (USD); Mount: Surface Mount; Case/Package: 0603; Case Code (Metric): 1608; Case Code (Imperial): 0603; Min Operating Temperature: -55°C; Max Operating Temperature: 85°C; Packaging: Tape and Reel; Capacitance: 10uF; Voltage Rating: 35V; Tolerance: 20%; Voltage Rating (DC): 35V; Dielectric: X5R; Length: 0.063inch; Width: 0.031inch; Thickness: 0.039inch; RoHS Compliant: Yes; ComponentLink1URL: http://search.murata.co.jp/Ceramy/image/img/A01X/G101/ENG/GRM188R6YA106MA73-01.pdf?src-supplier=Future+Electronics; ComponentLink1Description: http://search.murata.co.jp/Ceramy/image/img/A01X/G101/ENG/GRM188R6YA106MA73-01.pdf?src-supplier=Future+Electronics; ComponentLink2URL: http://search.murata.co.jp/Ceramy/image/img/A01X/G101/ENG/GRM188R6YA106MA73-01.pdf?src-supplier=Digi-Key; ComponentLink2Description: http://search.murata.co.jp/Ceramy/image/img/A01X/G101/ENG/GRM188R6YA106MA73-01.pdf?src-supplier=Digi-Key; ComponentLink3URL: https://www.murata.com/~/media/webrenewal/support/library/catalog/products/capacitor/mlcc/c02e.ashx?la=en-us&src-supplier=Digi-Key; ComponentLink3Description: https://www.murata.com/~/media/webrenewal/support/library/catalog/products/capacitor/mlcc/c02e.ashx?la=en-us&src-supplier=Digi-Key; ComponentLink4URL: http://search.murata.co.jp/Ceramy/image/img/A01X/G101/ENG/GRM188R6YA106MA73-01.pdf?src-supplier=Mouser; ComponentLink4Description: http://search.murata.co.jp/Ceramy/image/img/A01X/G101/ENG/GRM188R6YA106MA73-01.pdf?src-supplier=Mouser; ComponentLink5URL: http://search.murata.co.jp/Ceramy/image/img/A01X/G101/ENG/GRM188R6YA106MA73-01.pdf?src-supplier=TTI; ComponentLink5Description: http://search.murata.co.jp/Ceramy/image/img/A01X/G101/ENG/GRM188R6YA106MA73-01.pdf?src-supplier=TTI; Supplier Part Number 1: GRM188R6YA106MA73D
footprint Cap 0603
pins: 1, 2

## GRM188R6YA225KA12D
designator C?, comment 2.2uF
CAP, 2.2µF, 35V, 10%, X5R, 0603; Manufacturer: Murata; Manufacturer Part Number: GRM188R6YA225KA12D; Material: Ceramic; Supplier 1: Digi-Key; RoHS: Yes; Category: Ceramic Capacitors; Stock 1: 81665; Pricing 1: 1=0.21000, 10=0.14100, 50=0.08480, 100=0.07170, 500=0.04904, 1000=0.04338 (USD); Mount: Surface Mount; Case/Package: 0603; Case Code (Metric): 1608; Case Code (Imperial): 0603; Weight: 0.000222oz; Min Operating Temperature: -55°C; Max Operating Temperature: 85°C; Package Quantity: 4000; Packaging: Tape and Reel; Capacitance: 2.2uF; Tolerance: 10%; Voltage Rating: 35V; Dielectric: X5R; Voltage: 35V; Termination: SMD/SMT; Voltage Rating (DC): 35V; Series: GRM; Length: 1.6mm; Width: 0.8mm; Height: 0.8mm; Thickness: 0.035inch; Depth: 0.8mm; REACH SVHC: No SVHC; Lead Free: Lead Free; RoHS Compliant: Yes; ComponentLink1URL: https://datasheet.ciiva.com/14906/partnumbering-e-01-14906490.pdf?src-supplier=Digi-Key; ComponentLink1Description: https://datasheet.ciiva.com/14906/partnumbering-e-01-14906490.pdf?src-supplier=Digi-Key; ComponentLink2URL: https://datasheet.ciiva.com/14906/partnumbering-e-01-14906491.pdf?src-supplier=Digi-Key; ComponentLink2Description: https://datasheet.ciiva.com/14906/partnumbering-e-01-14906491.pdf?src-supplier=Digi-Key; ComponentLink3URL: https://datasheet.ciiva.com/14906/partnumbering-e-01-14906492.pdf?src-supplier=Digi-Key; ComponentLink3Description: https://datasheet.ciiva.com/14906/partnumbering-e-01-14906492.pdf?src-supplier=Digi-Key; Supplier Part Number 1: 490-7204-1-ND
footprint Cap 0603
pins: 1, 2

## GT-TC025D-H0065-L1
designator SW?
No NO J pin 50mA 3mm 100MΩ 100000 12V 250gf@±30gf 2.6mm -30℃~+85℃ 0.65mm Black Round Button Brick nogging SPST SMD Tactile Switches ROHS; Manufacturer: G-Switch; Manufacturer Part Number: GT-TC025D-H0065-L1; ComponentLink1Description: LCSC; ComponentLink1URL: https://www.lcsc.com/product-detail/Tactile-Switches_G-Switch-GT-TC025D-H0065-L1_C778132.html
footprint GT-TC025D-H0065-L1
pins: 1, 2, 3, 4